# Altium schematic symbol library FBD_Components.SchLib: 4 symbols
Pins are listed as number, name and electrical type; pins without a type are passive.

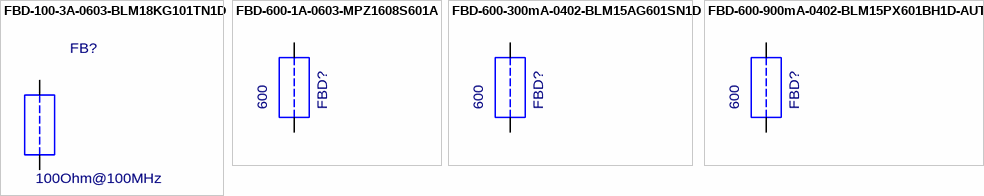
[diagram p0: symbols FBD-100-3A-0603-BLM18KG101TN1D to FBD-600-900mA-0402-BLM15PX601BH1D-AUTO]

## FBD-100-3A-0603-BLM18KG101TN1D
designator FB?  value 100Ohm@100MHz  (hidden comment: FBD-100-3A-0603-BLM18KG101TN1D)
Ferrite Bead, 100Ohm @ 100MHz, 3A, 0603; MFG: Murata Electronics; QPN: 127-001401-1000; PCB DECAL: 0603; Temp: 125C; MFGPN: BLM18KG101TN1D
footprint 0603_FBD
pins: 1, 2

## FBD-600-1A-0603-MPZ1608S601A
designator FBD?  value 600  (hidden comment: FBD-600-1A-0603-MPZ1608S601A)
Ferrite Bead, 600 Ohm, 1A, 0603, 150mOhm DCR; MFG: TDK Corporation; MFGPN: MPZ1608S601ATA00; PCB DECAL: 0603
footprint 0603_FBD
pins: 1, 2

## FBD-600-300mA-0402-BLM15AG601SN1D
designator FBD?  value 600  (hidden comment: FBD-600-300mA-0402-BLM15AG601SN1D)
Ferrite Bead, 600 Ohm, 300mA, 0402, 520mOhm DCR,, -55-125C; MFG: Murata; MFGPN: BLM15PX601BH1D; PCB DECAL: 0402
footprint 0402_FBD (Chip Inductor, 2-Leads, Body 1.00x0.55mm, IPC Medium Density)
pins: 1, 2

## FBD-600-900mA-0402-BLM15PX601BH1D-AUTO
designator FBD?  value 600  (hidden comment: FBD-600-900mA-0402-BLM15PX601BH1D-AUTO)
Ferrite Bead, 600 Ohm, 900mA, 0402, 230mOhm DCR, AEC-Q200; MFG: Murata; PCB DECAL: 0402; MFGPN: BLM15PX601BH1D
footprint 0402_FBD (Chip Inductor, 2-Leads, Body 1.00x0.55mm, IPC Medium Density)
pins: 1, 2